# Altium footprint library CONV_I6A4W020A033V-001-R.PcbLib: 1 footprints
Each footprint in its own frame and in the unit in brackets; x right, y up, seen from the top. Pads: shape width x height; smd on the part's side, far side on the other; paste and mask are expansions set on the pad; w line width, h text height; cw(c..) or ccw(c..) is an arc to the next point about the centre after c.
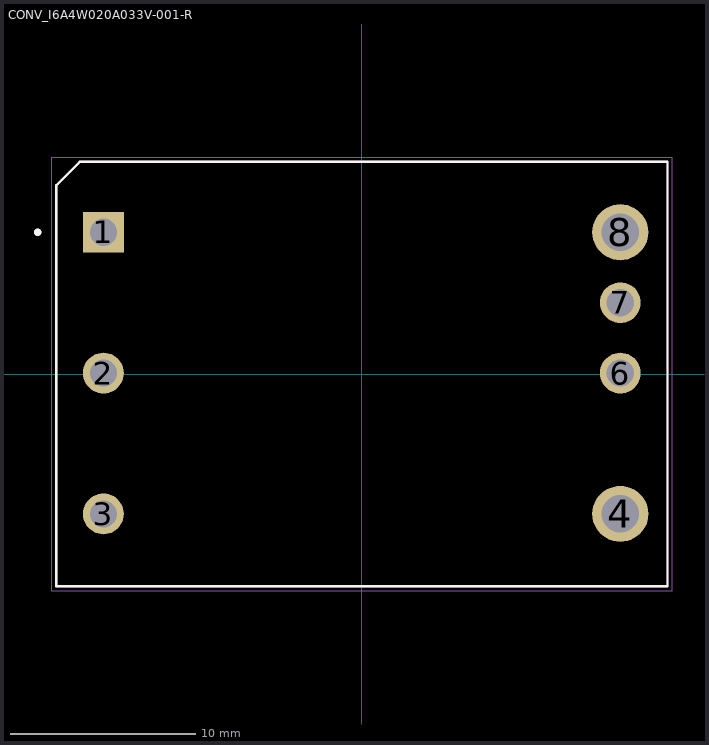
[diagram p0: the footprint, top view; thin cyan lines are the x and y axes]

## CONV_I6A4W020A033V-001-R [mm]
pads (7):
  rect 2.205x2.205 hole 1.47: 1(-13.95,7.65)
  round 2.205 hole 1.47: 2(-13.95,0.05) 3(-13.95,-7.55) 6(13.95,0.05) 7(13.95,3.85)
  round 3.03 hole 2.02: 4(13.95,-7.55) 8(13.95,7.65)
Top Overlay:
  circle w0.2: c-17.5,7.65 r0.1
  lines w0.127: -16.5,-11.45 -16.5,10.18 -15.23,11.45 16.5,11.45 16.5,-11.45 -16.5,-11.45
Mechanical 13:
  circle w0.2: c-17.5,7.65 r0.1
  lines w0.127: -16.5,-11.45 -16.5,10.18 -15.23,11.45 16.5,11.45 16.5,-11.45 -16.5,-11.45
Mechanical 15:
  lines w0.05: -16.75,-11.7 -16.75,11.7 16.75,11.7 16.75,-11.7 -16.75,-11.7
3D body "step_temp.STEP": height 9.65, standoff -3.56, extent -9.525,-11.684 9.525,11.684